# Altium footprint library PicoBlade 6POS VET SMD.PcbLib: 1 footprints
Each footprint in its own frame and in the unit in brackets; x right, y up, seen from the top. Pads: shape width x height; smd on the part's side, far side on the other; paste and mask are expansions set on the pad; w line width, h text height; cw(c..) or ccw(c..) is an arc to the next point about the centre after c.
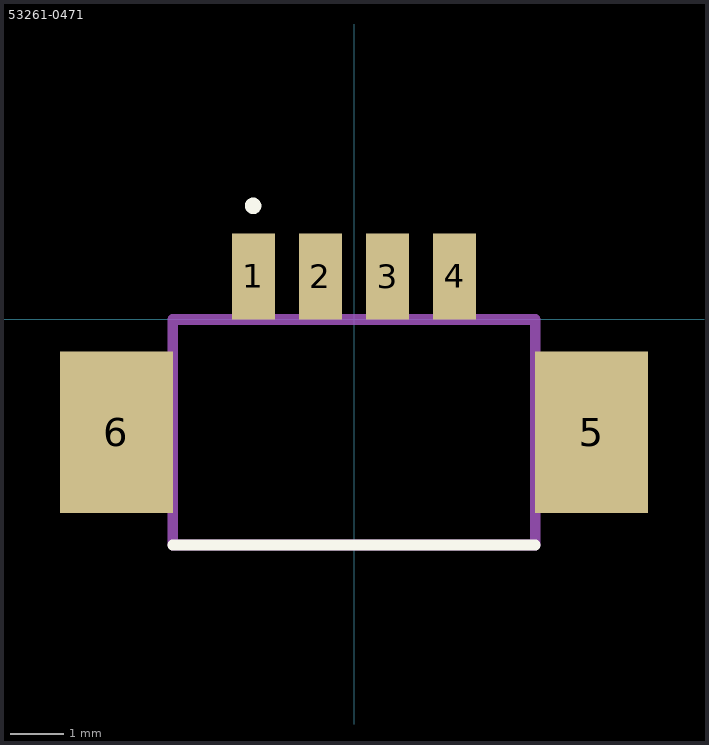
[diagram p0: the footprint, top view; thin cyan lines are the x and y axes]

## 53261-0471 [mm]
pads (6):
  rect 0.8x1.6 smd: 1(-1.875,0.8) 2(-0.625,0.8) 3(0.625,0.8) 4(1.875,0.8)
  rect 2.1x3 smd: 5(4.425,-2.1) 6(-4.425,-2.1)
L26-Silk Screen Top (Multiple PADS layers...):
  circle w0.2: c-1.879,2.116 r0.052
  lines w0.2: -3.375,-4.2 3.375,-4.2
L15 (Multiple PADS layers...):
  lines w0.2: -3.375,-4.2 -3.375,0 3.375,0 3.375,-4.2 -3.375,-4.2